# Altium footprint library SamacSys.PcbLib: 12 footprints
Each footprint in its own frame and in the unit in brackets; x right, y up, seen from the top. Pads: shape width x height; smd on the part's side, far side on the other; paste and mask are expansions set on the pad; w line width, h text height; cw(c..) or ccw(c..) is an arc to the next point about the centre after c.
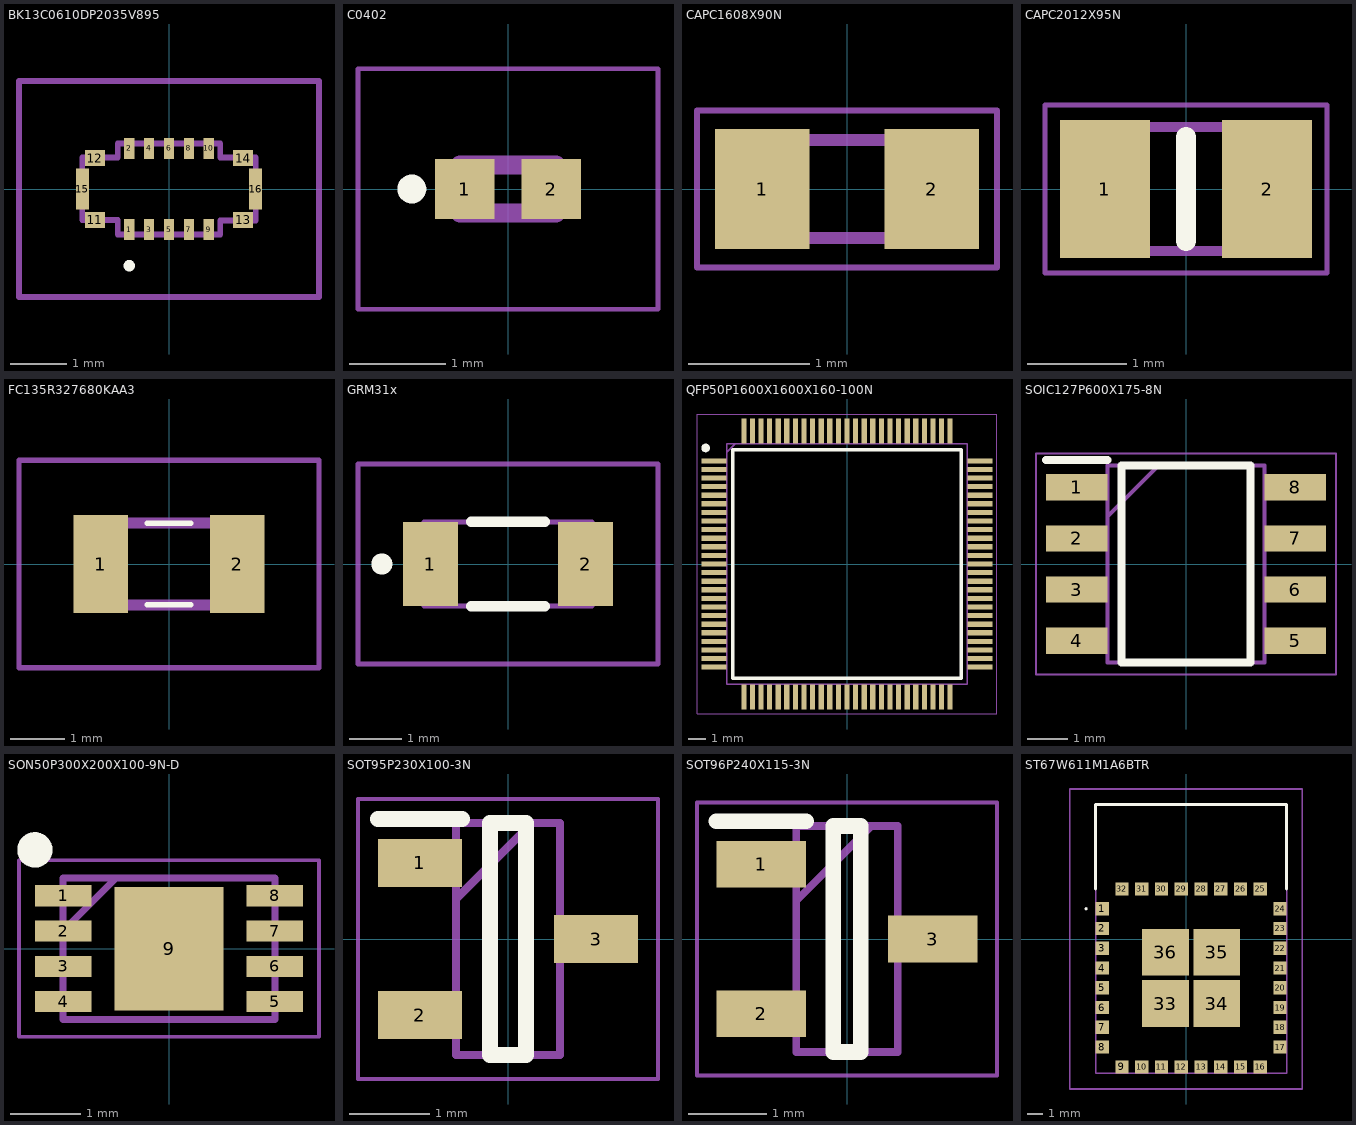
[diagram p0: the footprints below, top view; thin cyan lines are the x and y axes]

## BK13C0610DP2035V895 [mm]
pads (16):
  rect 0.18x0.37 smd: 1(-0.7,-0.715) 2(-0.7,0.715) 3(-0.35,-0.715) 4(-0.35,0.715) 5(0,-0.715) 6(0,0.715) 7(0.35,-0.715) 8(0.35,0.715) 9(0.7,-0.715) 10(0.7,0.715)
  rect 0.35x0.28 smd: 11(-1.305,-0.545) 12(-1.305,0.545) 13(1.305,-0.545) 14(1.305,0.545)
  rect 0.23x0.72 smd: 15(-1.525,0) 16(1.525,0)
Top Overlay:
  lines w0.1: -0.7,-1.4 cw(c-0.7,-1.35) -0.7,-1.3 cw(c-0.7,-1.35) -0.7,-1.4
Mechanical 13:
  lines w0.1: -1.525,-0.545 -1.525,0.555 -0.9,0.555 -0.9,0.8 0,0.8 0.9,0.8 0.9,0.555 1.525,0.555 1.525,-0.555 0.9,-0.555 0.9,-0.8 -0.9,-0.8 -0.9,-0.545 -1.525,-0.545
Mechanical 15:
  lines w0.1: -2.64,-1.9 -2.64,1.9 2.64,1.9 2.64,-1.9 -2.64,-1.9
3D body "BK13C06-10DP_2-0.35V_895_.stp": height 0, standoff -0.48, extent 0.1,-2.285 1.7,0.765

## C0402 [mm]
pads (2):
  rect 0.62x0.62 smd: 1(-0.45,0) 2(0.45,0)
Top Overlay:
  circle w0.2: c-1,0 r0.05
Mechanical 13:
  lines w0.2: -0.5,-0.25 0.5,-0.25 0.5,0.25 -0.5,0.25 -0.5,-0.25
Mechanical 15:
  lines w0.05: -1.56,-1.25 1.56,-1.25 1.56,1.25 -1.56,1.25 -1.56,-1.25
3D body "C0402C105K4PAC7411.stp": height 0.55, standoff 0, extent -0.52,-0.28 0.53,0.27

## CAPC1608X90N [mm]
pads (2):
  rect 0.78x0.99 smd: 1(-0.7,0) 2(0.7,0)
Mechanical 13:
  lines w0.1: -0.8,-0.405 -0.8,0.405 0.8,0.405 0.8,-0.405 -0.8,-0.405
Mechanical 15:
  lines w0.05: -1.24,-0.65 -1.24,0.65 1.24,0.65 1.24,-0.65 -1.24,-0.65
3D body "06035C334KAT2A.stp": height 0.91, standoff 0, extent -0.76,-0.38 0.76,0.38

## CAPC2012X95N [mm]
pads (2):
  rect 0.91x1.39 smd: 1(-0.82,0) 2(0.82,0)
Top Overlay:
  lines w0.2: 0,-0.525 0,0.525
Mechanical 13:
  lines w0.1: -1,-0.625 -1,0.625 1,0.625 1,-0.625 -1,-0.625
Mechanical 15:
  lines w0.05: -1.425,-0.85 -1.425,0.85 1.425,0.85 1.425,-0.85 -1.425,-0.85
3D body "GRM219R61A475ME34D.stp": height 0.95, standoff 0, extent -1,-0.625 1,0.625

## FC135R327680KAA3 [mm]
pads (2):
  rect 1x1.8 smd: 1(-1.25,0) 2(1.25,0)
Top Overlay:
  lines w0.1: -0.4,-0.75 0.4,-0.75 ; -0.4,0.75 0.4,0.75
Mechanical 13:
  lines w0.2: -1.6,-0.75 -1.6,0.75 1.6,0.75 1.6,-0.75 -1.6,-0.75
Mechanical 15:
  lines w0.1: -2.75,-1.9 -2.75,1.9 2.75,1.9 2.75,-1.9 -2.75,-1.9
3D body "FC-135R_32.7680KA-A3.stp": height 0, standoff 0, extent 0,0 0,0

## GRM31x [mm] "Murata GRM31CR71E335KA88L 3.3uF 25V X7R 1206; maximum component height 1.8mm; existing lands unchanged"
height 1.8
pads (2):
  rect 1.05x1.6 smd: 1(-1.475,0) 2(1.475,0)
Top Overlay:
  lines w0.2: -0.7,-0.8 0.7,-0.8 ; -0.7,0.8 0.7,0.8 ; -2.4,-0.1 ccw(c-2.4,0) -2.4,0.1 ccw(c-2.4,0) -2.4,-0.1
Mechanical 13:
  lines w0.1: -1.6,-0.8 -1.6,0.8 1.6,0.8 1.6,-0.8 -1.6,-0.8
Mechanical 15:
  lines w0.1: -2.854,-1.902 -2.854,1.902 2.854,1.902 2.854,-1.902 -2.854,-1.902
3D body "GRM31CR71E335KA88L.stp": height 1, standoff 0, extent -1.6,-0.8 1.6,0.8

## QFP50P1600X1600X160-100N [mm]
pads (100):
  rect 1.475x0.3 smd: 1(-7.738,6) 2(-7.738,5.5) 3(-7.738,5) 4(-7.738,4.5) 5(-7.738,4) 6(-7.738,3.5) 7(-7.738,3) 8(-7.738,2.5) 9(-7.738,2) 10(-7.738,1.5) 11(-7.738,1) 12(-7.738,0.5) 13(-7.738,0) 14(-7.738,-0.5) 15(-7.738,-1) 16(-7.738,-1.5) 17(-7.738,-2) 18(-7.738,-2.5) 19(-7.738,-3) 20(-7.738,-3.5) 21(-7.738,-4) 22(-7.738,-4.5) 23(-7.738,-5) 24(-7.738,-5.5) 25(-7.738,-6) 51(7.738,-6) 52(7.738,-5.5) 53(7.738,-5) 54(7.738,-4.5) 55(7.738,-4) 56(7.738,-3.5) 57(7.738,-3) 58(7.738,-2.5) 59(7.738,-2) 60(7.738,-1.5) 61(7.738,-1) 62(7.738,-0.5) 63(7.738,0) 64(7.738,0.5) 65(7.738,1) 66(7.738,1.5) 67(7.738,2) 68(7.738,2.5) 69(7.738,3) 70(7.738,3.5) 71(7.738,4) 72(7.738,4.5) 73(7.738,5) 74(7.738,5.5) 75(7.738,6)
  rect 0.3x1.475 smd: 26(-6,-7.738) 27(-5.5,-7.738) 28(-5,-7.738) 29(-4.5,-7.738) 30(-4,-7.738) 31(-3.5,-7.738) 32(-3,-7.738) 33(-2.5,-7.738) 34(-2,-7.738) 35(-1.5,-7.738) 36(-1,-7.738) 37(-0.5,-7.738) 38(0,-7.738) 39(0.5,-7.738) 40(1,-7.738) 41(1.5,-7.738) 42(2,-7.738) 43(2.5,-7.738) 44(3,-7.738) 45(3.5,-7.738) 46(4,-7.738) 47(4.5,-7.738) 48(5,-7.738) 49(5.5,-7.738) 50(6,-7.738) 76(6,7.738) 77(5.5,7.738) 78(5,7.738) 79(4.5,7.738) 80(4,7.738) 81(3.5,7.738) 82(3,7.738) 83(2.5,7.738) 84(2,7.738) 85(1.5,7.738) 86(1,7.738) 87(0.5,7.738) 88(0,7.738) 89(-0.5,7.738) 90(-1,7.738) 91(-1.5,7.738) 92(-2,7.738) 93(-2.5,7.738) 94(-3,7.738) 95(-3.5,7.738) 96(-4,7.738) 97(-4.5,7.738) 98(-5,7.738) 99(-5.5,7.738) 100(-6,7.738)
Top Overlay:
  circle w0.25: c-8.225,6.75 r0.125
  lines w0.2: -6.65,-6.65 -6.65,6.65 6.65,6.65 6.65,-6.65 -6.65,-6.65
Mechanical 13:
  lines w0.1: -7,6.5 -6.5,7 ; -7,-7 -7,7 7,7 7,-7 -7,-7
Mechanical 15:
  lines w0.05: -8.725,-8.725 -8.725,8.725 8.725,8.725 8.725,-8.725 -8.725,-8.725
3D body "STM32U575VIT6.stp": height 1.6, standoff 0, extent -8.103,-8.103 8.103,8.103

## SOIC127P600X175-8N [mm]
pads (8):
  rect 1.525x0.65 smd: 1(-2.712,1.905) 2(-2.712,0.635) 3(-2.712,-0.635) 4(-2.712,-1.905) 5(2.712,-1.905) 6(2.712,-0.635) 7(2.712,0.635) 8(2.712,1.905)
Top Overlay:
  lines w0.2: -3.475,2.58 -1.95,2.58 ; -1.6,-2.45 1.6,-2.45 1.6,2.45 -1.6,2.45 -1.6,-2.45
Mechanical 13:
  lines w0.1: -1.95,1.18 -0.68,2.45 ; -1.95,-2.45 1.95,-2.45 1.95,2.45 -1.95,2.45 -1.95,-2.45
Mechanical 15:
  lines w0.05: -3.725,-2.75 3.725,-2.75 3.725,2.75 -3.725,2.75 -3.725,-2.75
3D body "NE555DR.stp": height 1.75, standoff 0, extent -3,-2.45 3,2.45

## SON50P300X200X100-9N-D [mm]
pads (9):
  rect 0.8x0.3 smd: 1(-1.5,0.75) 2(-1.5,0.25) 3(-1.5,-0.25) 4(-1.5,-0.75) 5(1.5,-0.75) 6(1.5,-0.25) 7(1.5,0.25) 8(1.5,0.75)
  rect 1.55x1.75 smd: 9(0,0)
Top Overlay:
  circle w0.25: c-1.9,1.4 r0.125
Mechanical 13:
  lines w0.1: -1.5,0.25 -0.75,1 ; -1.5,-1 -1.5,1 1.5,1 1.5,-1 -1.5,-1
Mechanical 15:
  lines w0.05: -2.125,-1.25 -2.125,1.25 2.125,1.25 2.125,-1.25 -2.125,-1.25
3D body "MCP73831T-2ACI_MC.stp": height 1, standoff 0, extent -1.55,-1 1.55,1

## SOT95P230X100-3N [mm]
pads (3):
  rect 1.05x0.6 smd: 1(-1.1,0.95) 2(-1.1,-0.95) 3(1.1,0)
Top Overlay:
  lines w0.2: -1.625,1.5 -0.575,1.5 ; -0.225,-1.45 -0.225,1.45 0.225,1.45 0.225,-1.45 -0.225,-1.45
Mechanical 13:
  lines w0.1: -0.65,0.5 0.3,1.45 ; -0.65,-1.45 -0.65,1.45 0.65,1.45 0.65,-1.45 -0.65,-1.45
Mechanical 15:
  lines w0.05: -1.875,-1.75 -1.875,1.75 1.875,1.75 1.875,-1.75 -1.875,-1.75
3D body "PESD5V0X2UTR.stp": height 0.95, standoff 0, extent -1.201,-1.448 1.199,1.452

## SOT96P240X115-3N [mm]
pads (3):
  rect 1.15x0.6 smd: 1(-1.1,0.96) 2(-1.1,-0.96) 3(1.1,0)
Top Overlay:
  lines w0.2: -1.675,1.51 -0.525,1.51 ; -0.175,-1.45 -0.175,1.45 0.175,1.45 0.175,-1.45 -0.175,-1.45
Mechanical 13:
  lines w0.1: -0.65,0.49 0.31,1.45 ; -0.65,-1.45 -0.65,1.45 0.65,1.45 0.65,-1.45 -0.65,-1.45
Mechanical 15:
  lines w0.05: -1.925,-1.75 -1.925,1.75 1.925,1.75 1.925,-1.75 -1.925,-1.75
3D body "DMP2045U-7.stp": height 1.15, standoff 0, extent -1.2,-1.45 1.2,1.45

## ST67W611M1A6BTR [mm]
pads (36):
  rect 0.847x0.847 smd: 1(-5.386,1.945) 2(-5.386,0.675) 3(-5.386,-0.595) 4(-5.386,-1.865) 5(-5.386,-3.135) 6(-5.386,-4.405) 7(-5.386,-5.675) 8(-5.386,-6.945) 9(-4.115,-8.216) 10(-2.845,-8.216) 11(-1.575,-8.216) 12(-0.305,-8.216) 13(0.965,-8.216) 14(2.235,-8.216) 15(3.505,-8.216) 16(4.775,-8.216) 17(6.046,-6.945) 18(6.046,-5.675) 19(6.046,-4.405) 20(6.046,-3.135) 21(6.046,-1.865) 22(6.046,-0.595) 23(6.046,0.675) 24(6.046,1.945) 25(4.775,3.216) 26(3.505,3.216) 27(2.235,3.216) 28(0.965,3.216) 29(-0.305,3.216) 30(-1.575,3.216) 31(-2.845,3.216) 32(-4.115,3.216)
  rect 3x3 smd: 33(-1.32,-4.15) 34(1.98,-4.15) 35(1.98,-0.85) 36(-1.32,-0.85)
Top Overlay:
  lines w0.1: -6.47,1.945 cw(c-6.42,1.945) -6.37,1.945 cw(c-6.42,1.945) -6.47,1.945
  lines w0.2: -5.81,3.216 -5.81,8.64 6.47,8.64 6.47,3.216
Mechanical 13:
  lines w0.1: -5.81,-8.64 -5.81,8.64 6.47,8.64 6.47,-8.64 -5.81,-8.64
Mechanical 15:
  lines w0.1: -7.47,-9.64 -7.47,9.64 7.47,9.64 7.47,-9.64 -7.47,-9.64
3D body "ST67W611M1A6BTR.stp": height 2.4, standoff 0, extent -5.85,-8.64 6.43,8.64